# EAGLE library part MSP430FR5739 (library Mine)
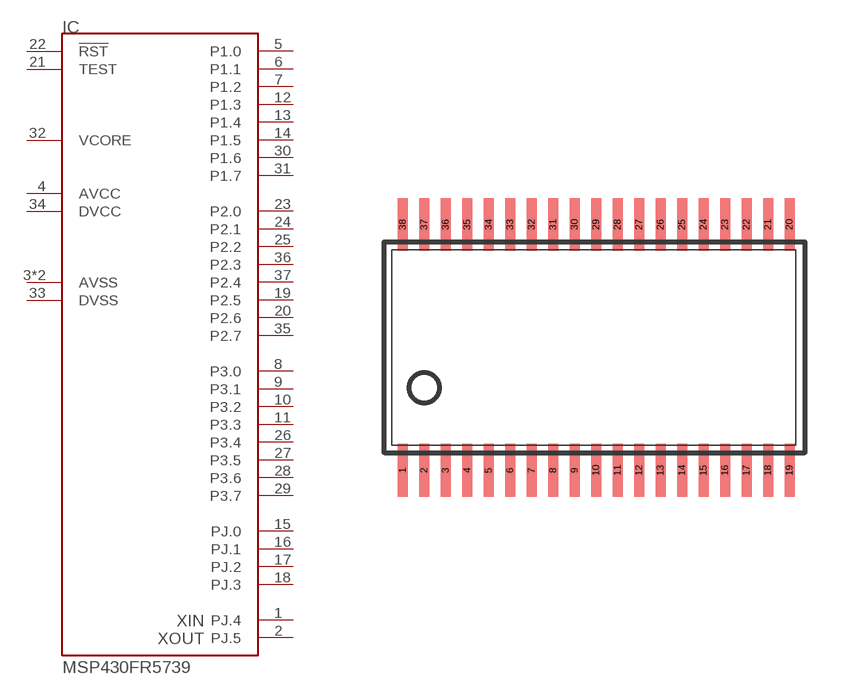
[diagram p89: symbol with the pads of TSSOP38; footprint TSSOP38]

Designator prefix IC

## MSP430FR5739DA  [TSSOP38]
1  PJ.4
2  PJ.5
3  AVSS  pwr
4  AVCC  pwr
5  P1.0
6  P1.1
7  P1.2
8  P3.0
9  P3.1
10  P3.2
11  P3.3
12  P1.3
13  P1.4
14  P1.5
15  PJ.0
16  PJ.1
17  PJ.2
18  PJ.3
19  P2.5
20  P2.6
21  TEST
22  !RST
23  P2.0
24  P2.1
25  P2.2
26  P3.4
27  P3.5
28  P3.6
29  P3.7
30  P1.6
31  P1.7
32  VCORE  sup
33  DVSS  pwr
34  DVCC  pwr
35  P2.7
36  P2.3
37  P2.4
38  AVSS  pwr

## Footprint TSSOP38 (pad centres in mm)
smd 0.3 x 1.6: 1 -4.225,-3.718; 2 -3.575,-3.718; 3 -2.925,-3.718; 4 -2.275,-3.718; 5 -1.625,-3.718; 6 -0.975,-3.718; 7 -0.325,-3.718; 8 0.325,-3.718; 9 0.975,-3.718; 10 1.625,-3.718; 11 2.275,-3.718; 12 2.925,-3.718; 13 3.575,-3.718; 14 4.225,-3.718; 15 4.875,-3.718; 16 5.525,-3.718; 17 6.175,-3.718; 18 6.825,-3.718; 19 7.475,-3.718; 20 7.475,3.718; 21 6.825,3.718; 22 6.175,3.718; 23 5.525,3.718; 24 4.875,3.718; 25 4.225,3.718; 26 3.575,3.718; 27 2.925,3.718; 28 2.275,3.718; 29 1.625,3.718; 30 0.975,3.718; 31 0.325,3.718; 32 -0.325,3.718; 33 -0.975,3.718; 34 -1.625,3.718; 35 -2.275,3.718; 36 -2.925,3.718; 37 -3.575,3.718; 38 -4.225,3.718